# Altium schematic symbol library BioPrinter_Schematics.SchLib: 10 symbols
Pins are listed as number, name and electrical type; pins without a type are passive.

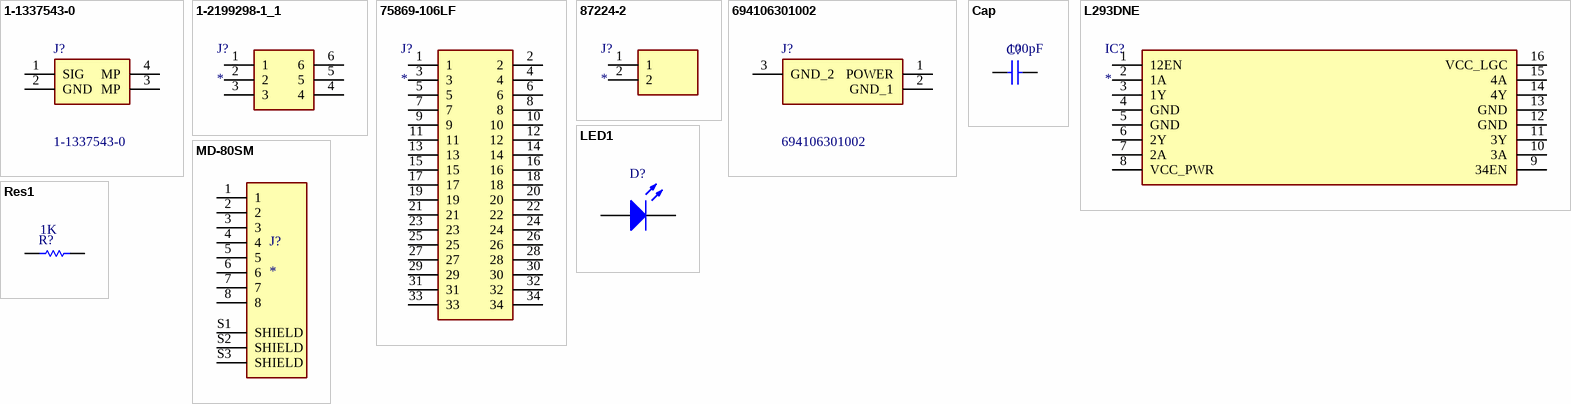
[diagram p0: symbols 1-1337543-0 to Res1]

## 1-1337543-0
designator J?
BNC Ins R/A PCB Skt 50Ohm White; Manufacturer_Name: TE Connectivity; Mouser Part Number: 571-1-1337543-0; Mouser Price/Stock: https://www.mouser.co.uk/ProductDetail/TE-Connectivity-AMP/1-1337543-0?qs=C39VGJgkyqP7s5Z2V1r6VA%3D%3D; Manufacturer_Part_Number: 1-1337543-0; Datasheet Link: http://www.te.com/commerce/DocumentDelivery/DDEController?Action=srchrtrv&DocNm=1337543&DocType=Customer+Drawing&DocLang=English
footprint 1-1337543-0
pins: 1 SIG, 2 GND, 3 MP, 4 MP

## 1-2199298-1_1
designator J?
Connector; Manufacturer_Name: TE Connectivity; Manufacturer_Part_Number: 1-2199298-1; Description: TE CONNECTIVITY - 1-2199298-1 - IC SOCKET; Datasheet Link: https://www.te.com/commerce/DocumentDelivery/DDEController?Action=showdoc&DocId=Customer+Drawing%7F2199298%7FA%7Fpdf%7FEnglish%7FENG_CD_2199298_A_baseFilename.pdf%7F1-2199298-1; Height: 5.1mm; Mouser Part Number: 571-1-2199298-1; Mouser Price/Stock: https://www.mouser.co.uk/ProductDetail/TE-Connectivity/1-2199298-1?qs=fK8dlpkaUMsQ%252BTzExsKLsw%3D%3D; Arrow Part Number: 1-2199298-1; Arrow Price/Stock: https://www.arrow.com/en/products/1-2199298-1/te-connectivity?region=nac
footprint DIPS762W70P254L762H510Q6N - duplicate
pins: 1, 2, 3, 4, 5, 6

## 75869-106LF
designator J?
Connector; Manufacturer_Name: Amphenol Communication Solutions; Manufacturer_Part_Number: 75869-106LF; Datasheet Link: https://cdn.amphenol-cs.com/media/wysiwyg/files/drawing/75869.pdf; Height: 9.57mm; Mouser Part Number: 649-75869-106LF; Mouser Price/Stock: https://www.mouser.co.uk/ProductDetail/Amphenol-FCI/75869-106LF/?qs=1mQnGnLk3HrYHDyKPzWixQ%3D%3D; Arrow Part Number: 75869-106LF; Arrow Price/Stock: https://www.arrow.com/en/products/75869-106lf/amphenol-fci
footprint SHDR34W62P254_2X17_5039X920X957P
pins: 1, 2, 3, 4, 5, 6, 7, 8, 9, 10, 11, 12, 13, 14, 15, 16, 17, 18, 19, 20, 21, 22, 23, 24, 25, 26, 27, 28, 29, 30, 31, 32, 33, 34

## 87224-2
designator J?
Connector; Manufacturer_Name: TE Connectivity; Manufacturer_Part_Number: 87224-2; Description: Mod II Header,vertical,1row,2way; Datasheet Link: https://datasheet.datasheetarchive.com/originals/distributors/Datasheets_SAMA/3b9b08c08f06dc562fe3ba32b60fa864.pdf; Height: 10.3632mm; Mouser Part Number: 571-872242; Mouser Price/Stock: https://www.mouser.co.uk/ProductDetail/TE-Connectivity/87224-2?qs=ZDXmSm13591yVHBRfmL3UQ%3D%3D; Arrow Part Number: 87224-2; Arrow Price/Stock: https://www.arrow.com/en/products/87224-2/te-connectivity?region=europe
footprint 872242
pins: 1, 2

## 694106301002
designator J?
WURTH ELEKTRONIK - 694106301002 - CONNECTOR, POWER ENTRY, JACK, 3A, 20VDC; Mouser Part Number: 710-694106301002; Mouser Price/Stock: https://www.mouser.co.uk/ProductDetail/Wurth-Elektronik/694106301002?qs=a9WhcLg8qCwOEkcI62k5mA%3D%3D; Manufacturer_Name: Wurth Elektronik; Manufacturer_Part_Number: 694106301002; Datasheet Link: https://datasheet.datasheetarchive.com/originals/distributors/Datasheets_SAMA/1c153bd2ba42bb51bda59ee4cd9765cd.pdf
footprint 694106301002_1
pins: 1 POWER, 2 GND_1, 3 GND_2

## Cap
designator C?  value 100pF
Capacitor; Published: 8-Jun-2000; LatestRevisionDate: 17-Jul-2002; LatestRevisionNote: Re-released for DXP Platform.; PackageReference: RAD-0.3; Publisher: Altium Limited; PackageDescription: Radial Cap, Thru-Hole; 2 Leads; 0.3 in Pin Spacing
simulation model CAP (Capacitor)
signal-integrity model Cap
footprint RAD-0.3 (Radial Cap, Thru-Hole; 2 Leads; 0.3 in Pin Spacing)
pins: 1, 2

## L293DNE
designator IC?
Integrated Circuit; Manufacturer_Name: Texas Instruments; Manufacturer_Part_Number: L293DNE; Description: Quadruple Half-H Drivers L293DNE; Datasheet Link: http://www.ti.com/lit/ds/symlink/l293d.pdf; Height: 5.08mm; Mouser Part Number: 595-L293DNE; Mouser Price/Stock: https://www.mouser.co.uk/ProductDetail/Texas-Instruments/L293DNE?qs=ZA235jQDfbp%2Fp7f5ThcsUA%3D%3D; Arrow Part Number: L293DNE; Arrow Price/Stock: https://www.arrow.com/en/products/l293dne/texas-instruments?region=nac
footprint DIP762W53P254L1980H508Q16N
pins: 1 12EN, 2 1A, 3 1Y, 4 GND, 5 GND, 6 2Y, 7 2A, 8 VCC_PWR, 9 34EN, 10 3A, 11 3Y, 12 GND, 13 GND, 14 4Y, 15 4A, 16 VCC_LGC

## LED1
designator D?
Typical RED GaAs LED; Published: 8-Jun-2000; LatestRevisionDate: 08-Jul-2005; LatestRevisionNote: Mech Layer 1 removed.; PackageReference: LED-1; Publisher: Altium Limited; PackageDescription: LED; 2 Leads
simulation model LED1 (Diode)
footprint LED-1 (LED; 2 Leads)
pins: 1 A, 2 K

## MD-80SM
designator J?
MF: {'manufacturer': u'CUI'}; MP: MD-80SM; Availability: Unavailable; Price: None; Package: None; Value: *
footprint CUI_MD-80SM
pins: 1, 2, 3, 4, 5, 6, 7, 8, S1 SHIELD, S2 SHIELD, S3 SHIELD

## Res1
designator R?  value 1K
Resistor; Published: 8-Jun-2000; LatestRevisionDate: 17-Jul-2002; LatestRevisionNote: Re-released for DXP Platform.; PackageReference: AXIAL-0.3; Publisher: Altium Limited; PackageDescription: Axial Device, Thru-Hole; 2 Leads; 0.3 in Pin Spacing
simulation model RESISTOR (Resistor)
signal-integrity model Res
footprint AXIAL-0.3 (Axial Device, Thru-Hole; 2 Leads; 0.3 in Pin Spacing)
pins: 1, 2